# Altium schematic symbol library crystal-4.SchLib: 1 symbol
Pins are listed as number, name and electrical type; pins without a type are passive.

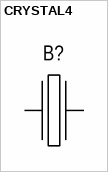
[diagram p0: symbol CRYSTAL4]

## CRYSTAL4
designator B?
pins: 1, 2 GND hidden, 3, 4 GND hidden
1 alternate drawing of the same symbol